# EAGLE library part DS1302N+ (library rcbussbc)
MAXIM INTEGRATED PRODUCTS - DS1302N+ - RTC IC, Date Time Format (Day/Date/Month/Year hh:mm:ss), Serial, 2 V to 5.5 V, DIP-8 Source: Datasheet <https://pdfserv.maximintegrated.com/en/ds/DS1302.pdf>
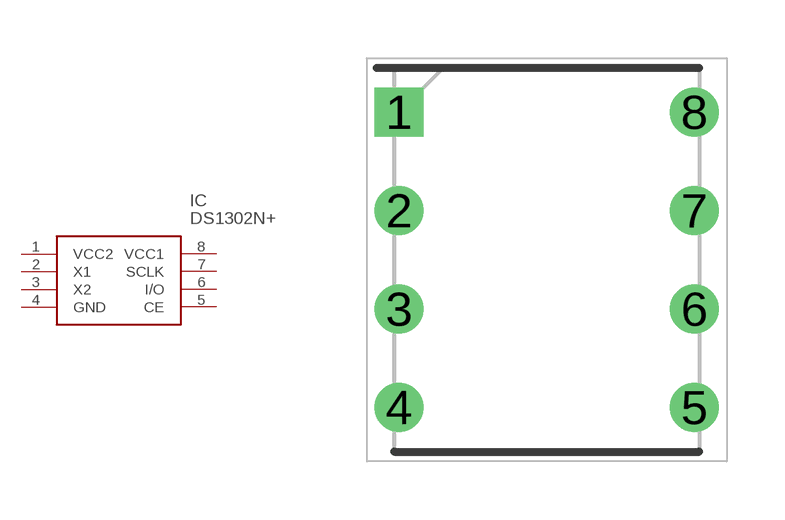
[diagram p10: symbol with the pads of DIP762W56P254L938H457Q8N; footprint DIP762W56P254L938H457Q8N]

Designator prefix IC

## DS1302N+ (ARROW_PART_NUMBER: DS1302N+; ARROW_PRICE-STOCK: https://www.arrow.com/en/products/ds1302n/maxim-integrated?region=nac; DESCRIPTION: MAXIM INTEGRATED PRODUCTS - DS1302N+ - RTC IC, Date Time Format (Day/Date/Month/Year hh:mm:ss), Serial, 2 V to 5.5 V, DIP-8; HEIGHT: 4.572mm; MANUFACTURER_NAME: Maxim Integrated; MANUFACTURER_PART_NUMBER: DS1302N+; MOUSER_PART_NUMBER: 700-DS1302N; MOUSER_PRICE-STOCK: https://www.mouser.co.uk/ProductDetail/Maxim-Integrated/DS1302N%2b?qs=0Y9aZN%252BMVCW2mhN0nL8jKA%3D%3D)  [DIP762W56P254L938H457Q8N]
1  VCC2
2  X1
3  X2
4  GND
5  CE
6  I/O
7  SCLK
8  VCC1

## Footprint DIP762W56P254L938H457Q8N (pad centres in mm)
8 DIP
drill 0.76 pad 1.16 square: 1 -3.81,3.81
drill 0.76 pad 1.16: 2 -3.81,1.27; 3 -3.81,-1.27; 4 -3.81,-3.81; 5 3.81,-3.81; 6 3.81,-1.27; 7 3.81,1.27; 8 3.81,3.81